# EAGLE library part ESWITCH-2POLE (library E-Switch and TonelucK ECG Pushbuttons)
E-SWITCH 2 Pole Locking Pushbutton
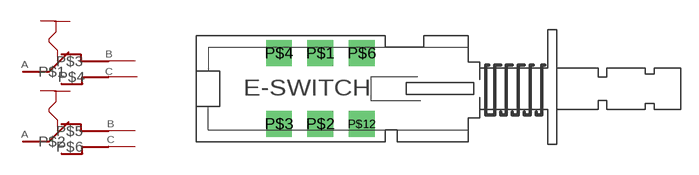
[diagram p0: symbol with the pads of ESWITCH-2POLE; footprint ESWITCH-2POLE]

Designator prefix -

## ESWITCH-2POLE  [ESWITCH-2POLE]
P$1  P$1  in
P$2  P$2  in
P$3  P$3  out
P$4  P$4  out
P$6  P$5  out
P$12  P$6  out

## Footprint ESWITCH-2POLE (pad centres in mm)
E-Switch 2 Pole Pushbutton, PC Mount
drill 1.3 pad 2.184 square: P$1 -0.98,3.12; P$2 -0.98,-2.88; P$3 -4.48,-2.88; P$4 -4.48,3.12; P$6 2.52,3.12; P$12 2.52,-2.88